# Altium footprint library B30MA08B.PcbLib: 1 footprints
Each footprint in its own frame and in the unit in brackets; x right, y up, seen from the top. Pads: shape width x height; smd on the part's side, far side on the other; paste and mask are expansions set on the pad; w line width, h text height; cw(c..) or ccw(c..) is an arc to the next point about the centre after c.
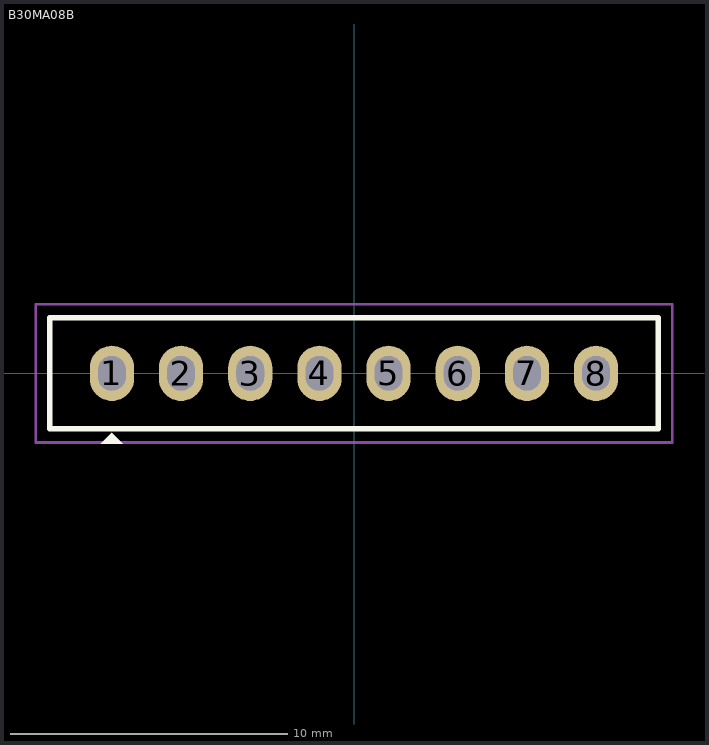
[diagram p0: the footprint, top view; thin cyan lines are the x and y axes]

## B30MA08B [mm]
pads (8):
  oval 1.6x2 hole 1 slot 1.25 at 90 deg: 1(-8.75,0) 2(-6.25,0) 3(-3.75,0) 4(-1.25,0) 5(1.25,0) 6(3.75,0) 7(6.25,0) 8(8.75,0)
Top Overlay:
  region: -8.35,-2.55 -9.15,-2.55 -8.75,-2.15
  lines w0.2: -11,-2 11,-2 11,2 -11,2 -11,-2
Top Courtyard:
  lines w0.1: -11.5,-2.5 -11.5,2.5 11.5,2.5 11.5,-2.5 -11.5,-2.5
3D body "DS-B30MA08B-R25A.stp": height 12.5, standoff -2.5, extent -11,-2 11,2